# Altium footprint library Passive.PcbLib: 35 footprints (part 2 of 3)
Each footprint in its own frame and in the unit in brackets; x right, y up, seen from the top. Pads: shape width x height; smd on the part's side, far side on the other; paste and mask are expansions set on the pad; w line width, h text height; cw(c..) or ccw(c..) is an arc to the next point about the centre after c.
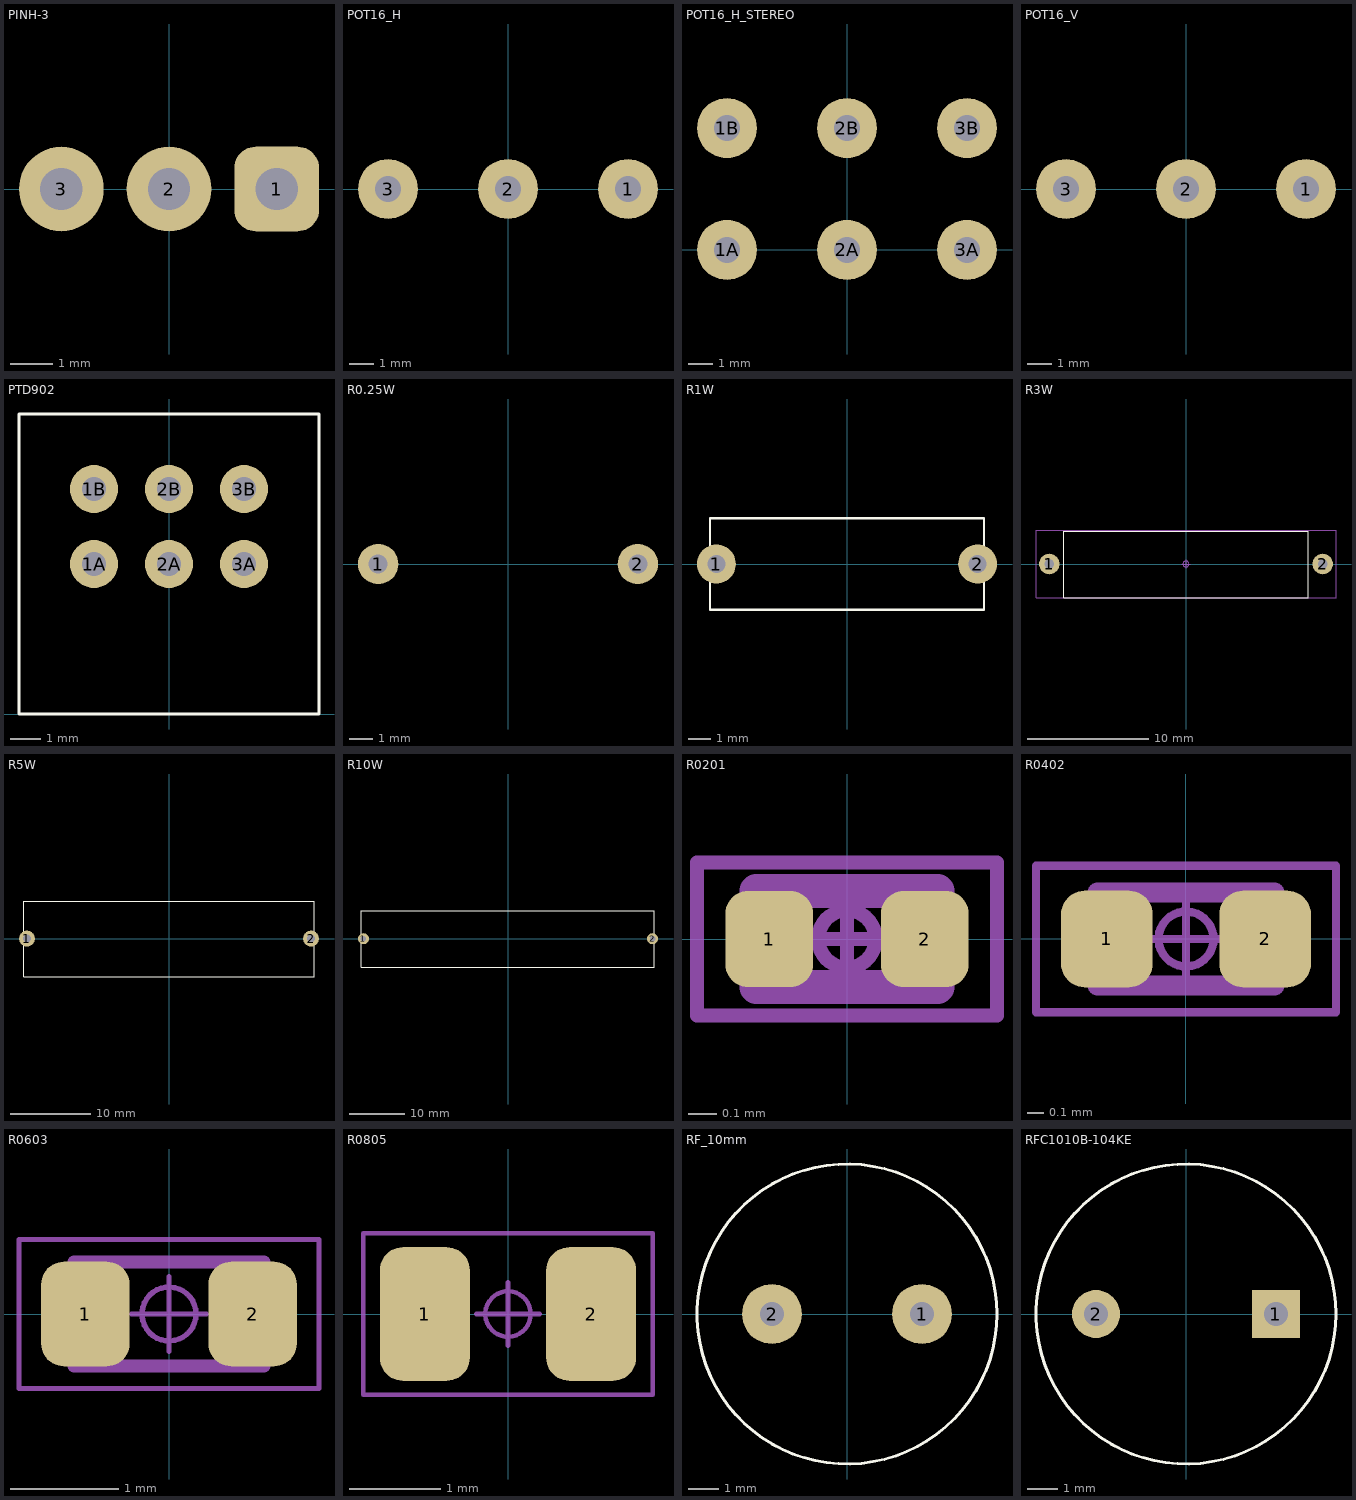
[diagram p1: the footprints below, top view; thin cyan lines are the x and y axes]

## PINH-3 [mm] "PINH-3"
pads (3):
  rrect50% 2x2 hole 1: 1(2.54,0)
  round 2 hole 1: 2(0,0) 3(-2.54,0)

## POT16_H [mm] "POT16_H"
pads (3):
  round 2.5 hole 1.1: 1(5,0) 2(0,0) 3(-5,0)
3D body "RV16AF-41.step": height 25.9, standoff -5, extent -8.5,-24.496 8.5,0.254

## POT16_H_STEREO [mm] "POT16_H_STEREO"
pads (6):
  round 2.5 hole 1.1: 1A(-5,0) 1B(-5,5.08) 2A(0,0) 2B(0,5.08) 3A(5,0) 3B(5,5.08)
3D body "RV16A01F-20.step": height 21.49, standoff -3, extent -8.5,-19.2 8.5,7.48

## POT16_V [mm] "POT16_V"
pads (3):
  round 2.5 hole 1.1: 1(5,0) 2(0,0) 3(-5,0)
3D body "RV16AF-20.step": height 21.5, standoff -3, extent -8.5,-5.334 8.5,18.966

## PTD902 [mm] "Stere Pot 9mm"
pads (6):
  round 1.6 hole 0.8: 1A(-2.5,5) 1B(-2.5,7.5) 2A(0,5) 2B(0,7.5) 3A(2.5,5) 3B(2.5,7.5)
Top Overlay:
  lines w0.1: -5,0 -5,10 5,10 5,0 0,0 -5,0

## R0.25W [mm] "R0.25W"
pads (2):
  round 1.7 hole 0.8: 1(-5.461,0) 2(5.461,0)
3D body "RES-0.25W.step": height 2.3, standoff -6, extent -5.926,-1.3 5.926,1.3

## R1W [mm] "R1W"
pads (2):
  round 1.7 hole 0.8: 1(-5.715,0) 2(5.715,0)
Top Overlay:
  lines w0.1: -6,-2 6,-2 6,2 -6,2 -6,-2
3D body "RES-1W.STEP": height 4, standoff -1.75, extent -6.015,-2 6.015,2

## R3W [mm] "R3W"
pads (2):
  round 1.7 hole 0.8: 1(-11.303,0) 2(11.303,0)
Top Overlay:
  lines w0.1: -10.1,-2.8 10.1,-2.8 10.1,2.7 -10.1,2.7 -10.1,-2.8
Mechanical 15:
  circle w0.05: c0,0 r0.25
  lines w0.05: -0.35,0 0.35,0 ; 0,-0.35 0,0.35 ; -12.4,-2.8 12.4,-2.8 12.4,2.8 -12.4,2.8 -12.4,-2.8
3D body "R_3W__D5,5__L16,5__Pitch-22,5__Spacing-1.stp": height 5.75, standoff -4.35, extent -11.65,-2.75 11.65,2.75

## R5W [mm] "R5W"
pads (2):
  round 2 hole 1: 1(-17.78,0) 2(17.78,0)
Top Overlay:
  lines w0.1: -18.2,-4.8 18.2,-4.8 18.2,4.7 -18.2,4.7 -18.2,-4.8
3D body "RES-5W.stp": height 10.5, standoff -2.4, extent -18.18,-4.75 18.18,4.75

## R10W [mm] "R10W"
pads (2):
  round 2 hole 1: 1(-26.289,0) 2(26.289,0)
Top Overlay:
  lines w0.1: -26.7,-5.2 26.6,-5.2 26.6,5.1 -26.7,5.1 -26.7,-5.2
3D body "RES-10W.stp": height 10.2, standoff -1.34, extent -26.675,-5.15 26.672,5.15

## R0201 [mm] "R0201"
pads (2):
  rrect52% 0.31x0.34 smd mask+0: 1(-0.275,0) 2(0.275,0)
Mechanical 13:
  lines w0.12: -0.32,-0.17 -0.32,0.17 0.32,0.17 0.32,-0.17 -0.32,-0.17
Mechanical 15:
  circle w0.05: c0,0 r0.101
  lines w0.05: -0.135,0 0.135,0 ; 0,-0.135 0,0.135 ; -0.53,-0.27 -0.53,0.27 0.53,0.27 0.53,-0.27 -0.53,-0.27
3D body "RES-0201.stp": height 0.24, standoff 0, extent -0.3,-0.15 0.3,0.15

## R0402 [mm] "R0402"
pads (2):
  rrect51% 0.55x0.58 smd mask+0: 1(-0.475,0) 2(0.475,0)
Mechanical 13:
  lines w0.12: -0.53,-0.28 -0.53,0.28 0.53,0.28 0.53,-0.28 -0.53,-0.28
Mechanical 15:
  circle w0.05: c0,0 r0.165
  lines w0.05: -0.22,0 0.22,0 ; 0,-0.22 0,0.22 ; -0.9,-0.44 -0.9,0.44 0.9,0.44 0.9,-0.44 -0.9,-0.44
3D body "RES-0402.stp": height 0.34, standoff 0, extent -0.5,-0.25 0.5,0.25

## R0603 [mm] "R0603"
pads (2):
  rrect51% 0.82x0.97 smd mask+0: 1(-0.775,0) 2(0.775,0)
Mechanical 13:
  lines w0.12: -0.88,-0.48 0.88,-0.48 0.88,0.48 -0.88,0.48 -0.88,-0.48
Mechanical 15:
  circle w0.05: c0,0 r0.25
  lines w0.05: -0.345,0 0.345,0 ; 0,-0.345 0,0.345 ; -1.39,-0.69 1.39,-0.69 1.39,0.69 -1.39,0.69 -1.39,-0.69
3D body "RES-0603.stp": height 0.43, standoff 0, extent -0.8,-0.4 0.8,0.4

## R0805 [mm] "R0805"
pads (2):
  rrect51% 0.99x1.47 smd mask+0.05: 1(-0.915,0) 2(0.915,0)
Mechanical 15:
  circle w0.05: c0,0 r0.25
  lines w0.05: -0.35,0 0.35,0 ; 0,-0.35 0,0.35 ; -1.59,-0.89 -1.59,0.89 1.59,0.89 1.59,-0.89 -1.59,-0.89
3D body "RES-0805.stp": height 0.58, standoff 0, extent -1,-0.625 1,0.625

## RF_10mm [mm] "RF_10mm"
pads (2):
  round 2 hole 0.8: 1(2.5,0) 2(-2.5,0)
Top Overlay:
  circle w0.1: c0,0 r5
3D body "User Library-Inductor_D100_H125_LS050.step": height 13, standoff -3, extent -5,-4.981 5,5

## RFC1010B-104KE [mm] "RFC1010B-104KE"
pads (2):
  rect 1.6x1.6 hole 0.8: 1(3,0)
  round 1.6 hole 0.8: 2(-3,0)
Top Overlay:
  circle w0.1: c0,0 r5
3D body "RFC0807B 180µH.stp": height 9.55, standoff -4.14, extent -5.28,-5.226 5.28,5.334